# Altium footprint library sockets.PcbLib: 3 footprints
Each footprint in its own frame and in the unit in brackets; x right, y up, seen from the top. Pads: shape width x height; smd on the part's side, far side on the other; paste and mask are expansions set on the pad; w line width, h text height; cw(c..) or ccw(c..) is an arc to the next point about the centre after c.
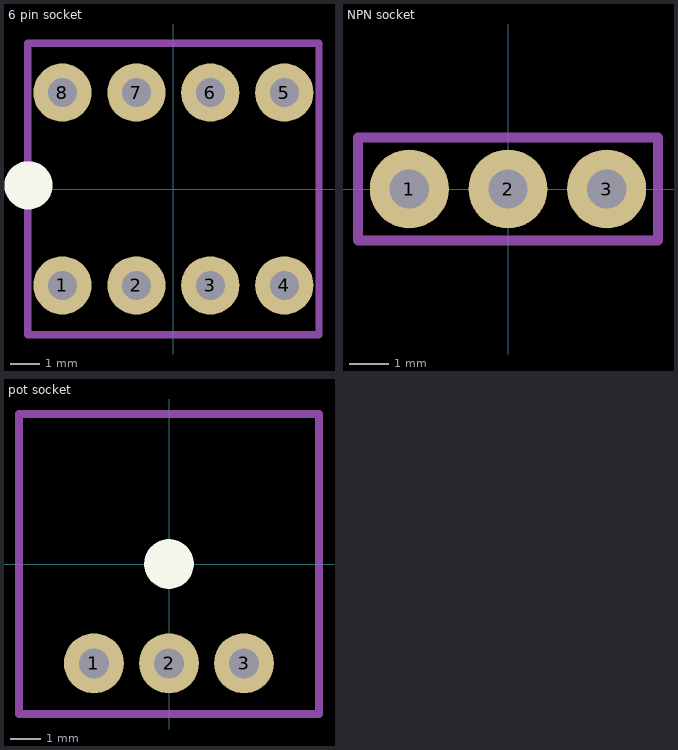
[diagram p0: the footprints below, top view; thin cyan lines are the x and y axes]

## 6 pin socket [mm] "6 pin socket"
height 5.1
pads (8):
  round 2 smd: 1(-3.81,-3.31) 2(-1.27,-3.31) 3(1.27,-3.31) 4(3.81,-3.31) 5(3.81,3.31) 6(1.27,3.31) 7(-1.27,3.31) 8(-3.81,3.31)
via -3.81,3.31 diameter 1.5 hole 1
via 1.27,3.31 diameter 1.5 hole 1
via 1.27,-3.31 diameter 1.5 hole 1
via -1.27,-3.31 diameter 1.5 hole 1
via -1.27,3.31 diameter 1.5 hole 1
via -3.81,-3.31 diameter 1.5 hole 1
via 3.81,3.31 diameter 1.5 hole 1
via 3.81,-3.31 diameter 1.5 hole 1
Top Overlay:
  circle w1: c-4.975,0.125 r0.326
Mechanical 13:
  lines w0.254: -5,-5 5,-5 5,5 -5,5 -5,-5
3D body: height 8.5, standoff 0, extent -5,-5 5,5

## NPN socket [mm] "NPN socket"
height 13
pads (3):
  round 2 smd: 1(-2.5,0) 2(0,0) 3(2.5,0)
via -2.5,0 diameter 1.5 hole 1
via 0,0 diameter 1.5 hole 1
via 2.5,0 diameter 1.5 hole 1
Mechanical 13:
  lines w0.254: -3.8,-1.3 -3.8,1.3 3.8,1.3 3.8,-1.3 -3.8,-1.3
3D body: height 14, standoff 0, extent -3.8,-1.3 3.8,1.3

## pot socket [mm] "pot socket"
height 13
pads (3):
  round 2 smd: 1(-2.5,-3.31) 2(0,-3.31) 3(2.5,-3.31)
via 2.5,-3.31 diameter 1.5 hole 1
via 0,-3.31 diameter 1.5 hole 1
via -2.5,-3.31 diameter 1.5 hole 1
Top Overlay:
  lines w1: 0.325,0.03 ccw(c0,0) 0.326,0
Mechanical 13:
  lines w0.254: -5,-5 5,-5 5,5 -5,5 -5,-5
3D body: height 14, standoff 0, extent -5,-5 5,5